# Altium footprint library pth-fuse.PcbLib: 1 footprints
Each footprint in its own frame and in the unit in brackets; x right, y up, seen from the top. Pads: shape width x height; smd on the part's side, far side on the other; paste and mask are expansions set on the pad; w line width, h text height; cw(c..) or ccw(c..) is an arc to the next point about the centre after c.
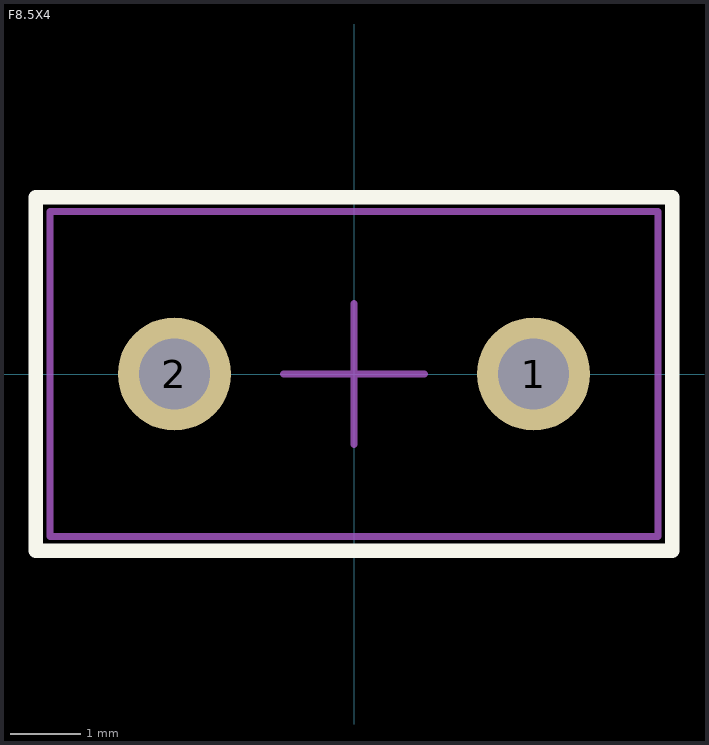
[diagram p0: the footprint, top view; thin cyan lines are the x and y axes]

## F8.5X4 [mm] "Radial Lead Fuse 8.5x4mm"
height 8
pads (2):
  round 1.6 hole 1: 1(2.54,0) 2(-2.54,0)
Top Overlay:
  lines w0.2: -4.5,-2.5 -4.5,2.5 4.5,2.5 4.5,-2.5 -4.5,-2.5
Mechanical 13:
  lines w0.1: -1,0 1,0 ; 0,-1 0,1 ; -4.3,-2.3 -4.3,2.3 4.3,2.3 4.3,-2.3 -4.3,-2.3
Mechanical 15:
  lines w0.1: -4.3,-2.3 4.3,-2.3 4.3,2.3 -4.3,2.3 -4.3,-2.3
  text ".Designator" at -2.3,-1.7 h0.5
3D body: height 8, standoff -2, extent -4.25,-2.252 4.25,2.252